# EAGLE library part LM27762 (library LM27762)
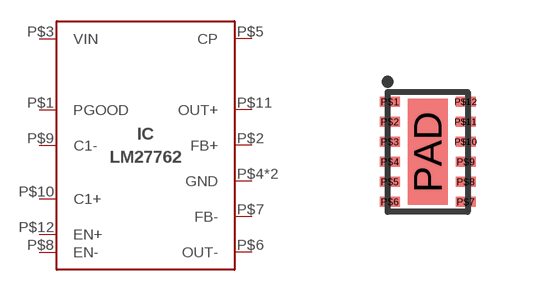
[diagram p0: symbol with the pads of WSON-12; footprint WSON-12]

Designator prefix IC

## LM27762  [WSON-12]
P$1  PGOOD
P$2  FB+  in
P$3  VIN  pwr
P$4  GND  pwr
P$5  CP  in
P$6  OUT-  out
P$7  FB-  in
P$8  EN-  in
P$9  C1-
P$10  C1+
P$11  OUT+  out
P$12  EN+  in
PAD  GND  pwr

## Footprint WSON-12 (pad centres in mm)
smd 0.5 x 0.25: P$1 -0.95,1.25; P$2 -0.95,0.75; P$3 -0.95,0.25; P$4 -0.95,-0.25; P$5 -0.95,-0.75; P$6 -0.95,-1.25; P$7 0.95,-1.25; P$8 0.95,-0.75; P$9 0.95,-0.25; P$10 0.95,0.25; P$11 0.95,0.75; P$12 0.95,1.25
smd 1 x 2.65: PAD 0,0